# Altium schematic symbol library PMV48XPAR.SchLib: 1 symbol
Pins are listed as number, name and electrical type; pins without a type are passive.

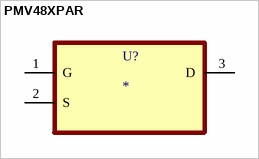
[diagram p0: symbol PMV48XPAR]

## PMV48XPAR
designator U?
P-channel Trench MOSFET; MF: {'manufacturer': u'Nexperia USA'}; MP: PMV48XPAR; Price: None; Availability: Unavailable; Value: *; Package: None
footprint SOT95P230X110-3N
pins: 1 G, 2 S, 3 D